# EAGLE library part 1324УВ3 (library microwave)
АЕЯР.431000.760–02 ТУ 1324УВ3 - СВЧ МИС широкополосного малопотребляющего усилителя с диапазоном рабочих частот 0,01-3,5 ГГц и выходной мощностью до 10 мВт, согласованная по входу и выходу с линией с волновым сопротивлением 50 Ом. Достоинства: ► Диапазон рабочих частот 0,01-3,5 ГГц ► Коэффициент усиления 19 дБ ► Коэффициент шума 2,6 дБ ► Выходная мощность 10 мВт ► Диапазон рабочих температур -60…+85 °С Электрические параметры при Uп=3,3 В, Rтз=5 Ом, Iр=30 мА, Т=25 °С, если не указано иного. Параметр, единица измерения Условия 1324УВ3 мин. тип. макс. Коэффициент усиления на частоте 100 МГц, дБ (Pвых =1 мВт) 15 19 Коэффициент усиления на частоте 1 ГГц, дБ (Pвых =1 мВт) 17 Коэффициент усиления на частоте 3 ГГц, дБ (Pвых =1 мВт) 12 Выходная мощность (P1dB) на частоте 100 МГц, дБм 11 Выходная мощность (P1dB) на частоте 1 ГГц, дБм 11 Выходная мощность (Psat) на частоте 100 МГц, дБм 7,0 10,0 Коэффициент шума, дБ 2,6 3,5 КСВ по входу и выходу, В/В 1,3 2,0 Прохождение сигнала с выхода на вход, дБ -21 Ток потребления, мА 20 30 50 Диапазон рабочих температур, °С -60 +85 Тепловое сопротивление «переход-среда», °С/Вт Корпус 5140.8-АНЗ 100 Производитель: ОАО «НПП «ПУЛЬСАР», г. Москва.
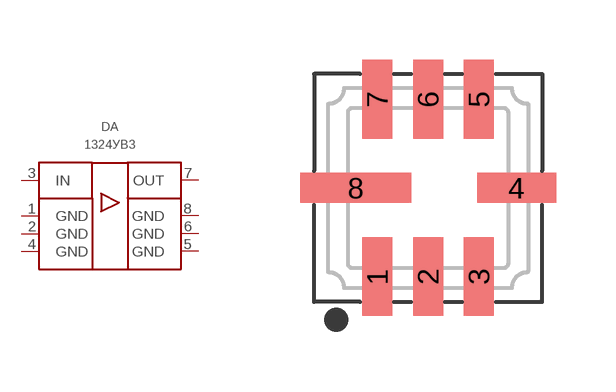
[diagram p7: symbol with the pads of 5140.8-АН3; footprint 5140.8-АН3]

Designator prefix DA

## 1324УВ3У  [5140.8-АН3]
1  GND  pwr
2  GND  pwr
3  IN  in
4  GND  pwr
5  GND  pwr
6  GND  pwr
7  OUT  in
8  GND  pwr

## Footprint 5140.8-АН3 (pad centres in mm)
smd 0.75 x 1.97: 1 -1.27,-2.215; 2 0,-2.215; 3 1.27,-2.215; 5 1.27,2.215; 6 0,2.215; 7 -1.27,2.215
smd 1.97 x 0.75: 4 2.215,0
smd 2.78 x 0.75: 8 -1.81,0